# Altium schematic symbol library DMG1029SV-7.SchLib: 1 symbol
Pins are listed as number, name and electrical type; pins without a type are passive.

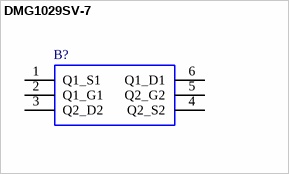
[diagram p0: symbol DMG1029SV-7]

## DMG1029SV-7
designator B?
Diodes Inc DMG1029SV-7 Dual N/P-channel MOSFET Transistor, 6-Pin SOT-563; Manufacturer_Name: Diodes Inc.; Geometry.Height: 0.6mm; Manufacturer_Part_Number: DMG1029SV-7; Mouser Part Number: 621-DMG1029SV-7; Mouser Price/Stock: https://www.mouser.co.uk/ProductDetail/Diodes-Incorporated/DMG1029SV-7?qs=gfe7vQ8txpXkNqlWcYvGlA%3D%3D; Arrow Part Number: DMG1029SV-7; Arrow Price/Stock: https://www.arrow.com/en/products/dmg1029sv-7/diodes-incorporated; Mouser Testing Part Number: *; Mouser Testing Price/Stock: *; Datasheet Link: https://www.diodes.com/assets/Datasheets/DMG1029SV.pdf
footprint SOTFL50P162X60-6N
pins: 1 Q1_S1, 2 Q1_G1, 3 Q2_D2, 4 Q2_S2, 5 Q2_G2, 6 Q1_D1